# EAGLE library part 615008160521 (library Eagle_WR-MJ (rev23b))
WR-MJ Modular Jack THT Vertical Shielded EMI 8P8C MATERIAL PROPERTIES Insulator Material PA9T Insulator Flammability Rating UL94 V-0 Insulator Color Black Contact Material Copper Alloy Contact Plating 6u' on contact area Contact Type Stamped GENERAL INFORMATION Operating Temperature -40 up to +85 °C ELECTRICAL PROPERTIES Working Voltage 125 V (AC) Contact Resistance 35 mΩ RISO 1000 MΩ PACKAGING PROPERTIES Packaging Tray <https://katalog.we-online.com/media/images/v2/o161623v209%20Family_WR-MJTH_615008160521.jpg> Details see: https://katalog.we-online.com/en/em/MJ_THT_VERTICAL_SHIELDED_8P8C_EMI Updated by Yingchun Shan 2020-01-03 2020(C) Wurth Elektronik
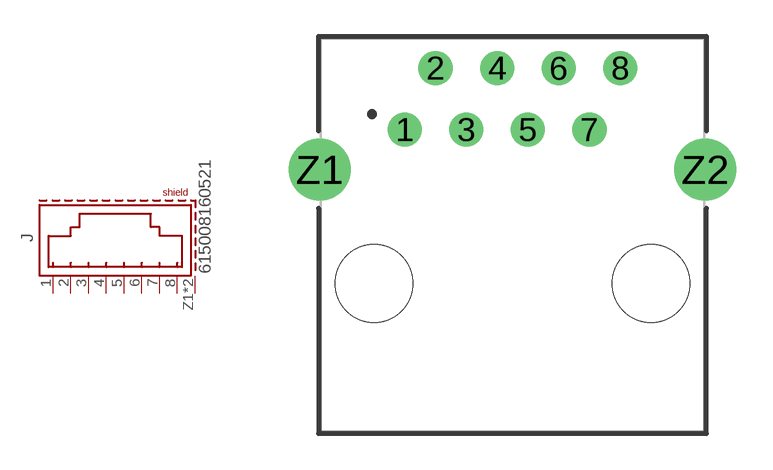
[diagram p33: symbol with the pads of 615008160521; footprint 615008160521]

Designator prefix J

## 615008160521 (DATASHEET-URL: https://www.we-online.com/redexpert/spec/615008160521?ae; MOUNT: THT; PART-NUMBER: 615008160521; TYPE: Vertical; VALUE: 615008160521; XPXC: 8P8C)  [615008160521]
1  8  pas
2  7  pas
3  6  pas
4  5  pas
5  4  pas
6  3  pas
7  2  pas
8  1  pas
Z1  SHIELD  pas
Z2  SHIELD  pas

## Footprint 615008160521 (pad centres in mm)
WR-MJ Modular Jack THT Vertical Shielded EMI 8P8C
drill 0.9: 1 -4.445,4.35; 2 -3.175,6.89; 3 -1.905,4.35; 4 -0.635,6.89; 5 0.635,4.35; 6 1.905,6.88; 7 3.175,4.35; 8 4.445,6.89
drill 1.7: Z1 -7.95,2.7; Z2 7.95,2.7
hole 3.2 at -5.715,-2.01
hole 3.2 at 5.715,-2.01